# Altium schematic symbol library SKA20B-05.SchLib: 1 symbol
Pins are listed as number, name and electrical type; pins without a type are passive.

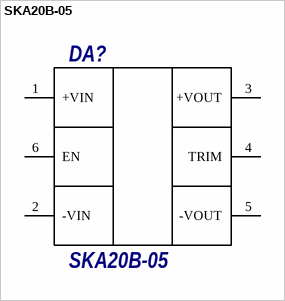
[diagram p0: symbol SKA20B-05]

## SKA20B-05
designator DA?
DC/DC преобразователь, 20Вт, вход 18-36В,выход 5В/4А
footprint SKA20B05
pins: 1 +VIN, 2 -VIN, 3 +VOUT, 4 TRIM, 5 -VOUT, 6 EN